# EAGLE library part IDEAL_DIODE_DUAL_LM66200 (library SparkFun_Thing_Plus_RA6M5)
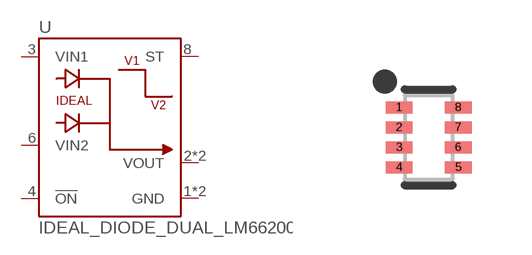
[diagram p5: symbol with the pads of SOT8; footprint SOT8]

Designator prefix U

## IDEAL_DIODE_DUAL_LM66200 (PROD_ID: IC-20783; VALUE: LM66200)  [SOT8]
1  GND
2  VOUT
3  VIN1
4  !ON!
5  GND
6  VIN2
7  VOUT
8  ST

## Footprint SOT8 (pad centres in mm)
smd 0.67 x 0.3: 1 -0.74,0.75; 2 -0.74,0.25; 3 -0.74,-0.25; 4 -0.74,-0.75; 5 0.74,-0.75; 6 0.74,-0.25; 7 0.74,0.25; 8 0.74,0.75